# Altium footprint library Speaker Library.PcbLib: 55 footprints (part 3 of 4)
Each footprint in its own frame and in the unit in brackets; x right, y up, seen from the top. Pads: shape width x height; smd on the part's side, far side on the other; paste and mask are expansions set on the pad; w line width, h text height; cw(c..) or ccw(c..) is an arc to the next point about the centre after c.
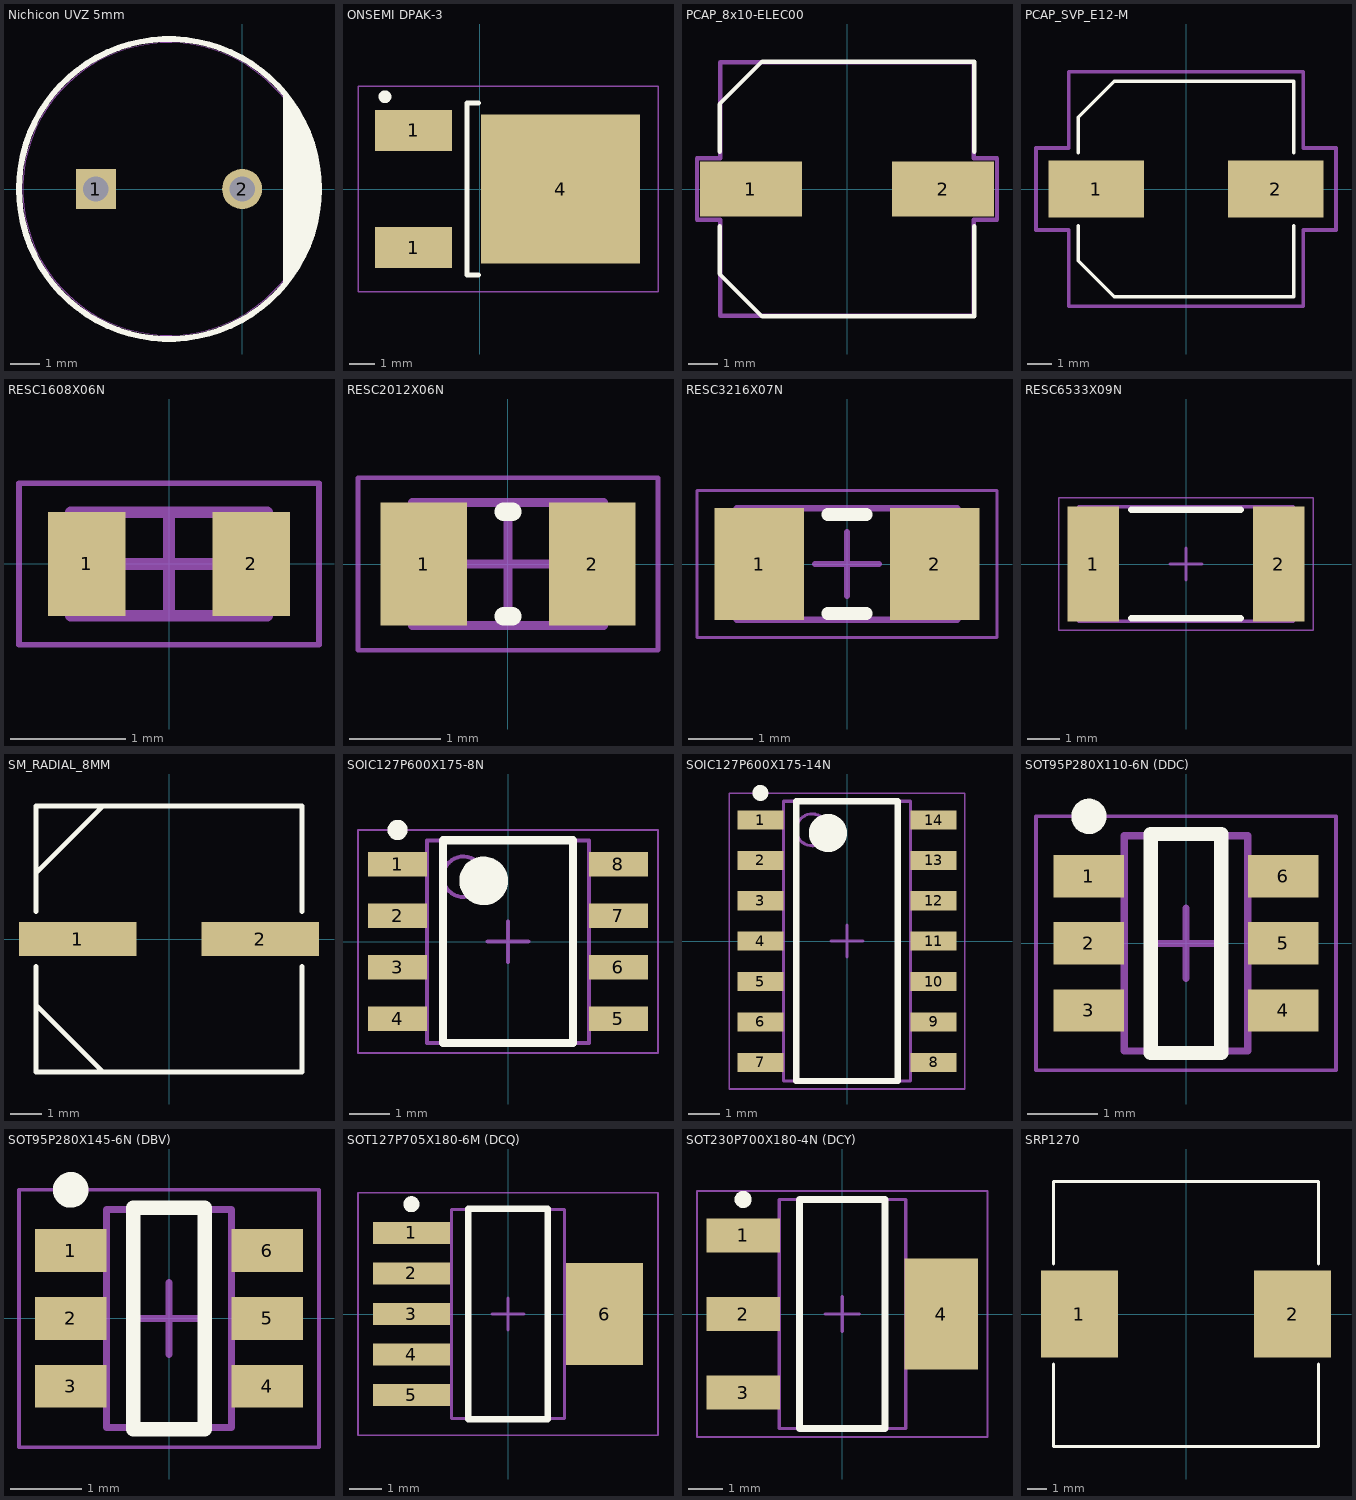
[diagram p2: the footprints below, top view; thin cyan lines are the x and y axes]

## Nichicon UVZ 5mm [mil]
height 787.4
pads (2):
  rect 54x54 / inner round 60 / far side rect 54x54 hole 34: 1(-197,0)
  round 54 / inner round 60 / far side round 54 hole 34: 2(0,0)
Top Overlay:
  circle w7.87: c-98.5,0 r202
  region: 55.12,135.17 55.12,-129.13 82.68,-90.55 94.49,-55.12 103.5,0 94.49,55.12 74.8,102.36
Mechanical 13:
  circle w0: c-98.5,0 r197
3D body "U1-T.stp": height 778.01, standoff -172, extent -295.5,-197 99.51,197

## ONSEMI DPAK-3 [mm]
pads (3):
  rect 3x1.6 smd: 1(-2.58,-2.285) 1(-2.58,2.285)
  rect 6.2x5.8 smd: 4(3.15,0)
Top Overlay:
  circle w0.25: c-3.7,3.6 r0.125
  lines w0.2: -0.05,-3.35 -0.5,-3.35 -0.5,3.35 -0.05,3.35
Mechanical 15:
  lines w0.05: -4.75,-4 6.95,-4 6.95,4 -4.75,4 -4.75,-4
  lines w0.1: 0.6,0 1.6,0 ; 1.1,-0.5 1.1,0.5
3D body "DPAK229P991X239-3N.step": height 2.39, standoff 0, extent -4,-3.375 5.905,3.375

## PCAP_8x10-ELEC00 [mil]
pads (2):
  rect 138x75 smd: 1(-130,0) 2(130,0)
Top Overlay:
  lines w6: -172.5,-50.6 -172.5,-114.9 -114.9,-172.5 172.5,-172.5 172.5,-50.6 ; -172.5,50.6 -172.5,114.9 -114.9,172.5 172.5,172.5 172.5,50.6
Mechanical 15:
  lines w6: -203,-41.5 -171.5,-41.5 -171.5,-171.5 171.5,-171.5 171.5,-41.5 203,-41.5 203,41.5 171.5,41.5 171.5,171.5 -171.5,171.5 -171.5,41.5 -203,41.5 -203,-41.5
3D body "PCAP_8x10-ELECT.stp": height 407, standoff 0, extent -183,-167.5 183,167.5

## PCAP_SVP_E12-M [mil]
pads (2):
  rect 153x91 smd: 1(-143.5,0) 2(143.5,0)
Top Overlay:
  lines w6: -172.5,-58.6 -172.5,-114.9 -114.9,-172.5 172.5,-172.5 172.5,-58.6 ; -172.5,58.6 -172.5,114.9 -114.9,172.5 172.5,172.5 172.5,58.6
Mechanical 15:
  lines w6: -240,-65.5 -187.5,-65.5 -187.5,-187.5 187.5,-187.5 187.5,-65.5 240,-65.5 240,65.5 187.5,65.5 187.5,187.5 -187.5,187.5 -187.5,65.5 -240,65.5 -240,-65.5
3D body "PCAP_SVP_E12-L.stp": height 474, standoff 0, extent -181,-167.5 181,167.5

## RESC1608X06N [mm] "Chip Resistor, 2-Leads, Body 1.60x0.80mm, IPC Medium Density"
height 0.55
pads (2):
  rect 0.67x0.9 smd: 1(-0.713,0) 2(0.713,0)
Mechanical 13:
  lines w0.1: -0.85,-0.45 0.85,-0.45 0.85,0.45 -0.85,0.45 -0.85,-0.45
Mechanical 15:
  lines w0.05: -1.3,-0.7 1.3,-0.7 1.3,0.7 -1.3,0.7 -1.3,-0.7
  lines w0.1: -0.45,0 0.45,0 ; 0,-0.45 0,0.45
3D body: height 0.55, standoff 0, extent 0.6,-0.45 0.85,0.45
3D body: height 0.55, standoff 0, extent -0.85,-0.45 -0.6,0.45
3D body: height 0.55, standoff 0, extent -0.6,-0.45 0.6,0.45

## RESC2012X06N [mm] "Chip Resistor, 2-Leads, Body 2.00x1.25mm, IPC Medium Density"
height 0.6
pads (2):
  rect 0.95x1.35 smd: 1(-0.925,0) 2(0.925,0)
Top Overlay:
  lines w0.2: -0.05,-0.575 0.05,-0.575 ; -0.05,0.575 0.05,0.575
Mechanical 13:
  lines w0.1: -1.05,-0.675 -1.05,0.675 1.05,0.675 1.05,-0.675 -1.05,-0.675
Mechanical 15:
  lines w0.05: -1.65,-0.95 -1.65,0.95 1.65,0.95 1.65,-0.95 -1.65,-0.95
  lines w0.1: -0.5,0 0.5,0 ; 0,-0.5 0,0.5
3D body: height 0.6, standoff 0, extent -0.75,-0.675 0.75,0.675
3D body: height 0.6, standoff 0, extent -1.05,-0.675 -0.75,0.675
3D body: height 0.6, standoff 0, extent 0.75,-0.675 1.05,0.675

## RESC3216X07N [mm] "Chip Resistor, 2-Leads, Body 3.20x1.60mm, IPC Medium Density"
height 0.7
pads (2):
  rect 1.4x1.75 smd: 1(-1.375,0) 2(1.375,0)
Top Overlay:
  lines w0.2: -0.3,-0.775 0.3,-0.775 ; -0.3,0.775 0.3,0.775
Mechanical 13:
  lines w0.1: -1.725,-0.875 1.725,-0.875 1.725,0.875 -1.725,0.875 -1.725,-0.875
Mechanical 15:
  lines w0.05: -2.35,-1.15 2.35,-1.15 2.35,1.15 -2.35,1.15 -2.35,-1.15
  lines w0.1: -0.5,0 0.5,0 ; 0,-0.5 0,0.5
3D body: height 0.7, standoff 0, extent 1.225,-0.875 1.725,0.875
3D body: height 0.7, standoff 0, extent -1.725,-0.875 -1.225,0.875
3D body: height 0.7, standoff 0, extent -1.225,-0.875 1.225,0.875

## RESC6533X09N [mm] "Chip Resistor, 2-Leads, Body 6.45x3.35mm, IPC Medium Density"
height 0.9
pads (2):
  rect 1.6x3.55 smd: 1(-2.875,0) 2(2.875,0)
Top Overlay:
  lines w0.2: -1.7,-1.675 1.7,-1.675 ; -1.7,1.675 1.7,1.675
Mechanical 13:
  lines w0.1: -3.325,-1.775 -3.325,1.775 3.325,1.775 3.325,-1.775 -3.325,-1.775
Mechanical 15:
  lines w0.05: -3.95,-2.05 -3.95,2.05 3.95,2.05 3.95,-2.05 -3.95,-2.05
  lines w0.1: -0.5,0 0.5,0 ; 0,-0.5 0,0.5
3D body: height 0.9, standoff 0, extent -2.375,-1.775 2.375,1.775
3D body: height 0.9, standoff 0, extent -3.325,-1.775 -2.375,1.775
3D body: height 0.9, standoff 0, extent 2.375,-1.775 3.325,1.775

## SM_RADIAL_8MM [mil]
pads (2):
  rect 148x43 smd: 1(-115,0) 2(115,0)
Top Overlay:
  lines w6: -167.5,-83.75 -83.75,-167.5 ; -167.5,-34.6 -167.5,-167.5 167.5,-167.5 167.5,-34.6 ; -167.5,34.6 -167.5,167.5 167.5,167.5 167.5,34.6 ; -167.5,83.75 -83.75,167.5
3D body "PCAP_8x10-ELECT.stp": height 407, standoff 0, extent -183,-167.5 183,167.5

## SOIC127P600X175-8N [mm] "SOIC, 8-Leads, Body 4.90x3.90mm, Pitch 1.27mm, IPC Medium Density"
height 1.75
pads (8):
  rect 1.45x0.6 smd: 1(-2.725,1.905) 2(-2.725,0.635) 3(-2.725,-0.635) 4(-2.725,-1.905) 5(2.725,-1.905) 6(2.725,-0.635) 7(2.725,0.635) 8(2.725,1.905)
Top Overlay:
  circle w0.25: c-2.725,2.755 r0.125
  circle w0.6: c-0.6,1.5 r0.3
  lines w0.2: -1.6,-2.5 -1.6,2.5 1.6,2.5 1.6,-2.5 -1.6,-2.5
Mechanical 13:
  circle w0.1: c-1.1,1.6 r0.5
  lines w0.1: -2,-2.5 -2,2.5 2,2.5 2,-2.5 -2,-2.5
Mechanical 15:
  lines w0.05: -3.7,-2.75 -3.7,2.75 3.7,2.75 3.7,-2.75 -3.7,-2.75
  lines w0.1: -0.5,0 0.5,0 ; 0,-0.5 0,0.5
3D body: height 1.75, standoff 0.1, extent -2,-2.5 2,2.5

## SOIC127P600X175-14N [mm] "SOIC, 14-Leads, Body 8.65x3.90mm, Pitch 1.27mm, IPC Medium Density"
height 1.75
pads (14):
  rect 1.45x0.6 smd: 1(-2.725,3.81) 2(-2.725,2.54) 3(-2.725,1.27) 4(-2.725,0) 5(-2.725,-1.27) 6(-2.725,-2.54) 7(-2.725,-3.81) 8(2.725,-3.81) 9(2.725,-2.54) 10(2.725,-1.27) 11(2.725,0) 12(2.725,1.27) 13(2.725,2.54) 14(2.725,3.81)
Top Overlay:
  circle w0.6: c-0.6,3.4 r0.3
  circle w0.25: c-2.725,4.66 r0.125
  lines w0.2: -1.6,-4.4 1.6,-4.4 1.6,4.4 -1.6,4.4 -1.6,-4.4
Mechanical 13:
  circle w0.1: c-1.1,3.5 r0.5
  lines w0.1: -2,-4.4 2,-4.4 2,4.4 -2,4.4 -2,-4.4
Mechanical 15:
  lines w0.05: -3.7,-4.65 3.7,-4.65 3.7,4.65 -3.7,4.65 -3.7,-4.65
  lines w0.1: -0.5,0 0.5,0 ; 0,-0.5 0,0.5
3D body: height 1.75, standoff 0.1, extent -2,-4.4 2,4.4

## SOT95P280X110-6N (DDC) [mm] "SOT23, 6-Leads, Body 2.90x2.80mm, Pitch 0.95mm, IPC Medium Density"
height 1.1
pads (6):
  rect 1x0.6 smd mask+0.05: 1(-1.375,0.95) 2(-1.375,0) 3(-1.375,-0.95) 4(1.375,-0.95) 5(1.375,0) 6(1.375,0.95)
Top Overlay:
  circle w0.25: c-1.375,1.8 r0.125
  lines w0.2: -0.5,-1.55 -0.5,1.55 0.5,1.55 0.5,-1.55 -0.5,-1.55
Mechanical 13:
  lines w0.1: -0.875,-1.525 0.875,-1.525 0.875,1.525 -0.875,1.525 -0.875,-1.525
Mechanical 15:
  lines w0.05: -2.125,-1.8 2.125,-1.8 2.125,1.8 -2.125,1.8 -2.125,-1.8
  lines w0.1: -0.5,0 0.5,0 ; 0,-0.5 0,0.5
3D body "SOT95P280X110-6N (DDC).step": height 1.1, standoff 0, extent -1.525,-1.525 1.525,1.525

## SOT95P280X145-6N (DBV) [mm] "SOT23, 6-Leads, Body 2.90x2.80mm, Pitch 0.95mm, IPC Medium Density"
height 1.45
pads (6):
  rect 1x0.6 smd: 1(-1.375,0.95) 2(-1.375,0) 3(-1.375,-0.95) 4(1.375,-0.95) 5(1.375,0) 6(1.375,0.95)
Top Overlay:
  circle w0.25: c-1.375,1.8 r0.125
  lines w0.2: -0.5,-1.55 0.5,-1.55 0.5,1.55 -0.5,1.55 -0.5,-1.55
Mechanical 13:
  lines w0.1: -0.875,-1.525 -0.875,1.525 0.875,1.525 0.875,-1.525 -0.875,-1.525
Mechanical 15:
  lines w0.05: -2.1,-1.8 -2.1,1.8 2.1,1.8 2.1,-1.8 -2.1,-1.8
  lines w0.1: -0.5,0 0.5,0 ; 0,-0.5 0,0.5
3D body "SOT95P280X145-6N (DBV).step": height 1.45, standoff 0, extent -1.5,-1.525 1.5,1.525

## SOT127P705X180-6M (DCQ) [mm] "SOT223, 6-Leads, Body 6.50x7.05mm (avg), Pitch 1.27mm, IPC Low Density"
height 1.8
pads (6):
  rect 2.4x0.7 smd: 1(-3.025,2.54) 2(-3.025,1.27) 3(-3.025,0) 4(-3.025,-1.27) 5(-3.025,-2.54)
  rect 2.4x3.2 smd: 6(3.025,0)
Top Overlay:
  circle w0.25: c-3.025,3.44 r0.125
  lines w0.2: -1.25,-3.3 1.25,-3.3 1.25,3.3 -1.25,3.3 -1.25,-3.3
Mechanical 13:
  lines w0.1: -1.775,-3.275 1.775,-3.275 1.775,3.275 -1.775,3.275 -1.775,-3.275
Mechanical 15:
  lines w0.05: -4.7,-3.8 4.7,-3.8 4.7,3.8 -4.7,3.8 -4.7,-3.8
  lines w0.1: -0.5,0 0.5,0 ; 0,-0.5 0,0.5
3D body "SOT127P705X180-6M (DCQ).step": height 1.8, standoff 0, extent -3.528,-3.275 3.528,3.275

## SOT230P700X180-4N (DCY) [mm] "SOT223, 4-Leads, Body 6.50x7.00mm (avg), Pitch 2.30mm, IPC Medium Density"
height 1.8
pads (4):
  rect 2.15x1 smd: 1(-2.9,2.3) 2(-2.9,0) 3(-2.9,-2.3)
  rect 2.15x3.25 smd: 4(2.9,0)
Top Overlay:
  circle w0.25: c-2.9,3.35 r0.125
  lines w0.2: -1.25,-3.35 -1.25,3.35 1.25,3.35 1.25,-3.35 -1.25,-3.35
Mechanical 13:
  lines w0.1: -1.85,-3.35 -1.85,3.35 1.85,3.35 1.85,-3.35 -1.85,-3.35
Mechanical 15:
  lines w0.05: -4.25,-3.6 -4.25,3.6 4.25,3.6 4.25,-3.6 -4.25,-3.6
  lines w0.1: -0.5,0 0.5,0 ; 0,-0.5 0,0.5
3D body "SOT230P700X180-4N (DCY).step": height 1.8, standoff 0, extent -3.5,-3.35 3.5,3.35

## SRP1270 [mil]
pads (2):
  rect 157.5x177 smd: 1(-216.75,0) 2(216.75,0)
Top Overlay:
  lines w6: -269.5,-101.6 -269.5,-269.5 -254,-269.5 254,-269.5 269.5,-269.5 269.5,-101.6 ; -269.5,101.6 -269.5,269.5 -254,269.5 254,269.5 269.5,269.5 269.5,101.6
3D body "srp1270.stp": height 275.59, standoff 0, extent -269.68,-267.72 269.7,271.66